# EAGLE library part MINI-PCIE-* (library Board)
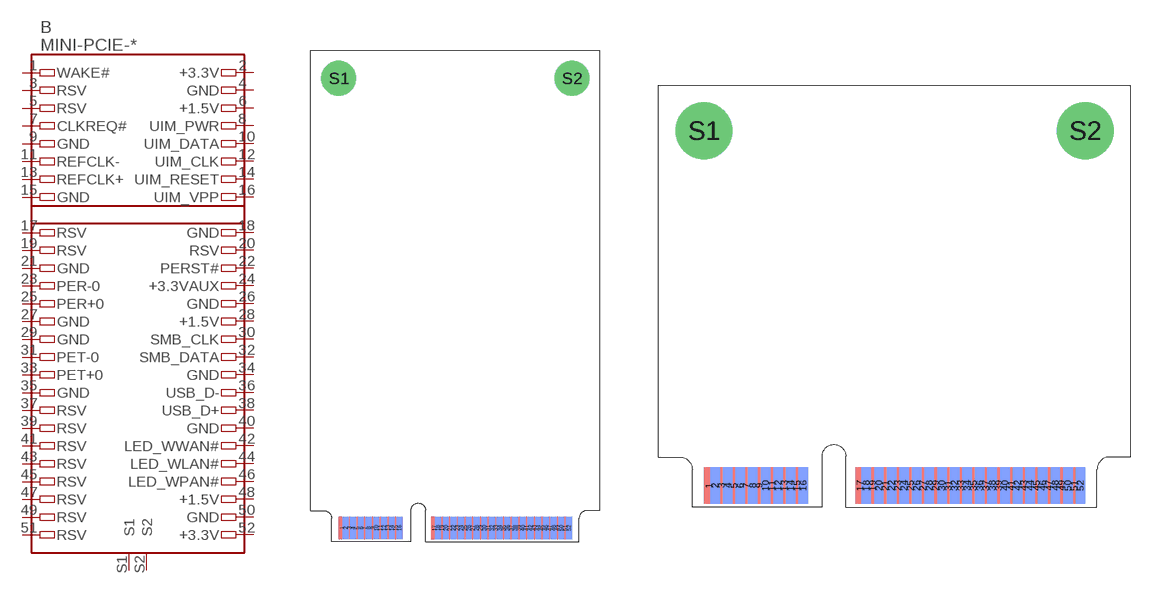
[diagram p0: symbol with the pads of MINI-PCIE-FULL; footprints MINI-PCIE-FULL, MINI-PCIE-HALF]

Designator prefix B

## MINI-PCIE-FULL  [MINI-PCIE-FULL]
1  WAKE#
2  +3.3V
3  RSV
4  GND
5  RSV
6  +1.5V
7  CLKREQ#
8  UIM_PWR
9  GND
10  UIM_DATA
11  REFCLK-
12  UIM_CLK
13  REFCLK+
14  UIM_RESET
15  GND
16  UIM_VPP
17  RSV
18  GND
19  RSV
20  RSV
21  GND
22  PERST#
23  PER-0
24  +3.3VAUX
25  PER+0
26  GND
27  GND
28  +1.5V
29  GND
30  SMB_CLK
31  PET-0
32  SMB_DATA
33  PET+0
34  GND
35  GND
36  USB_D-
37  RSV
38  USB_D+
39  RSV
40  GND
41  RSV
42  LED_WWAN#
43  RSV
44  LED_WLAN#
45  RSV
46  LED_WPAN#
47  RSV
48  +1.5V
49  RSV
50  GND
51  RSV
52  +3.3V
S1  S1
S2  S2

## MINI-PCIE-HALF  [MINI-PCIE-HALF]
Pads as for MINI-PCIE-FULL

## Footprint MINI-PCIE-FULL (pad centres in mm)
smd 0.6 x 2.3: 1 3.2,1.4; 3 4,1.4; 5 4.8,1.4; 7 5.6,1.4; 9 6.4,1.4; 11 7.2,1.4; 13 8,1.4; 15 8.8,1.4; 17 12.8,1.4; 19 13.6,1.4; 21 14.4,1.4; 23 15.2,1.4; 25 16,1.4; 27 16.8,1.4; 29 17.6,1.4; 31 18.4,1.4; 33 19.2,1.4; 35 20,1.4; 37 20.8,1.4; 39 21.6,1.4; 41 22.4,1.4; 43 23.2,1.4; 45 24,1.4; 47 24.8,1.4; 49 25.6,1.4; 51 26.4,1.4
smd 0.6 x 2.3 bottom: 2 3.6,1.4; 4 4.4,1.4; 6 5.2,1.4; 8 6,1.4; 10 6.8,1.4; 12 7.6,1.4; 14 8.4,1.4; 16 9.2,1.4; 18 13.2,1.4; 20 14,1.4; 22 14.8,1.4; 24 15.6,1.4; 26 16.4,1.4; 28 17.2,1.4; 30 18,1.4; 32 18.8,1.4; 34 19.6,1.4; 36 20.4,1.4; 38 21.2,1.4; 40 22,1.4; 42 22.8,1.4; 44 23.6,1.4; 46 24.4,1.4; 48 25.2,1.4; 50 26,1.4; 52 26.8,1.4
drill 2.6: S1 2.9,48.05; S2 27.1,48.05

## Footprint MINI-PCIE-HALF (pad centres in mm)
smd 0.6 x 2.3: 1 3.2,1.4; 3 4,1.4; 5 4.8,1.4; 7 5.6,1.4; 9 6.4,1.4; 11 7.2,1.4; 13 8,1.4; 15 8.8,1.4; 17 12.8,1.4; 19 13.6,1.4; 21 14.4,1.4; 23 15.2,1.4; 25 16,1.4; 27 16.8,1.4; 29 17.6,1.4; 31 18.4,1.4; 33 19.2,1.4; 35 20,1.4; 37 20.8,1.4; 39 21.6,1.4; 41 22.4,1.4; 43 23.2,1.4; 45 24,1.4; 47 24.8,1.4; 49 25.6,1.4; 51 26.4,1.4
smd 0.6 x 2.3 bottom: 2 3.6,1.4; 4 4.4,1.4; 6 5.2,1.4; 8 6,1.4; 10 6.8,1.4; 12 7.6,1.4; 14 8.4,1.4; 16 9.2,1.4; 18 13.2,1.4; 20 14,1.4; 22 14.8,1.4; 24 15.6,1.4; 26 16.4,1.4; 28 17.2,1.4; 30 18,1.4; 32 18.8,1.4; 34 19.6,1.4; 36 20.4,1.4; 38 21.2,1.4; 40 22,1.4; 42 22.8,1.4; 44 23.6,1.4; 46 24.4,1.4; 48 25.2,1.4; 50 26,1.4; 52 26.8,1.4
drill 2.6: S1 2.9,23.9; S2 27.1,23.9